# Altium footprint library Discrete.PCBLIB: 128 footprints (part 2 of 8)
Each footprint in its own frame and in the unit in brackets; x right, y up, seen from the top. Pads: shape width x height; smd on the part's side, far side on the other; paste and mask are expansions set on the pad; w line width, h text height; cw(c..) or ccw(c..) is an arc to the next point about the centre after c.
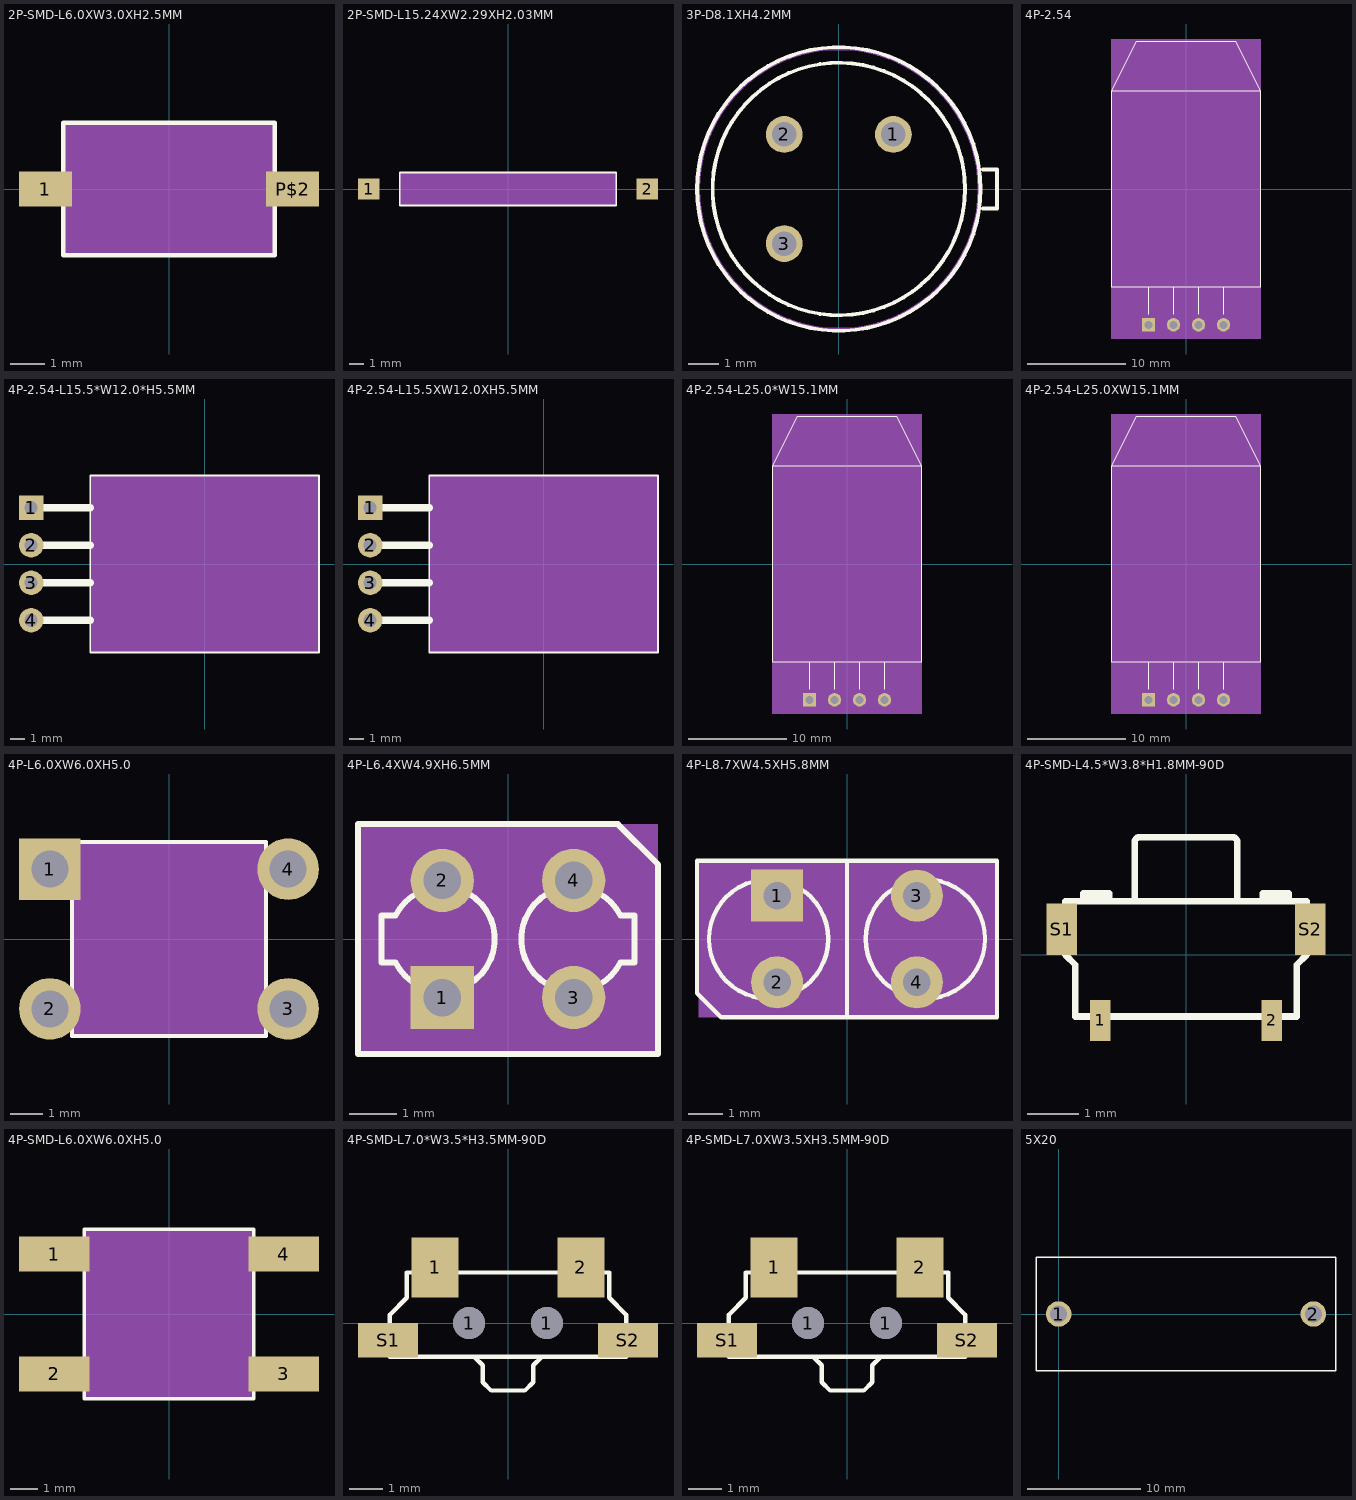
[diagram p1: the footprints below, top view; thin cyan lines are the x and y axes]

## 2P-SMD-L6.0XW3.0XH2.5MM [mil]
pads (2):
  rect 60x40 smd: 1(-140,0) P$2(140,0)
Top Overlay:
  lines w5: -120,-75 120,-75 120,75 -120,75 -120,-75
Mechanical 27:
  rectangle: -120,-75 120,75

## 2P-SMD-L15.24XW2.29XH2.03MM [mil]
pads (2):
  rect 59.06x59.06 smd: 1(-385.83,0) 2(385.83,0)
Top Overlay:
  lines w5: -300,-45.28 300,-45.28 300,45.28 -300,45.28 -300,-45.28
Mechanical 27:
  rectangle: -300,-45 300,45

## 3P-D8.1XH4.2MM [mil]
pads (3):
  round 47.25 hole 31.5: 1(70,70) 2(-70,70) 3(-70,-70)
Top Overlay:
  circle w5: c0,0 r182
  circle w5: c0,0 r162
  lines w5: 185,-25 203,-25 203,25 185,25
Mechanical 27:
  circle w5: c0,0 r180.62

## 4P-2.54 [mm]
pads (4):
  rect 1.35x1.35 hole 0.8: P$1(-3.81,-13.8)
  round 1.35 hole 0.8: P$2(-1.27,-13.8) P$3(1.27,-13.8) P$4(3.81,-13.8)
Top Overlay:
  lines w0.127: -3.81,-12.7 -3.81,-10 ; -1.27,-12.7 -1.27,-10 ; 1.27,-12.7 1.27,-10 ; 3.81,-12.7 3.81,-10 ; -7.55,10 7.55,10 ; -7.55,10 -7.55,-10 -3.81,-10 ; -7.55,10 -5,15 5,15 7.55,10 ; -3.81,-10 -1.27,-10 ; -1.27,-10 1.27,-10 ; 1.27,-10 3.81,-10 ; 3.81,-10 7.55,-10 7.55,10
Mechanical 27:
  rectangle: -7.62,-15.24 7.62,15.24

## 4P-2.54-L15.5*W12.0*H5.5MM [mil]
pads (4):
  rect 65x65 hole 35: 1(-462.6,150)
  round 65 hole 35: 2(-462.6,50) 3(-462.6,-50) 4(-462.6,-150)
Top Overlay:
  lines w5: -305.12,-236.22 305.12,-236.22 305.12,236.22 -305.12,236.22 -305.12,-236.22
  lines w20: -465,-50 -305,-50 ; -460,-150 -305,-150 ; -460,50 -305,50 ; -460,150 -305,150
Mechanical 27:
  rectangle: -305,-235 305,235

## 4P-2.54-L15.5XW12.0XH5.5MM [mil]
pads (4):
  rect 65x65 hole 35: 1(-462.6,150)
  round 65 hole 35: 2(-462.6,50) 3(-462.6,-50) 4(-462.6,-150)
Top Overlay:
  lines w5: -305.12,-236.22 305.12,-236.22 305.12,236.22 -305.12,236.22 -305.12,-236.22
  lines w20: -465,-50 -305,-50 ; -460,-150 -305,-150 ; -460,50 -305,50 ; -460,150 -305,150
Mechanical 27:
  rectangle: -305,-235 305,235

## 4P-2.54-L25.0*W15.1MM [mm]
pads (4):
  rect 1.35x1.35 hole 0.8: P$1(-3.81,-13.8)
  round 1.35 hole 0.8: P$2(-1.27,-13.8) P$3(1.27,-13.8) P$4(3.81,-13.8)
Top Overlay:
  lines w0.127: -3.81,-12.7 -3.81,-10 ; -1.27,-12.7 -1.27,-10 ; 1.27,-12.7 1.27,-10 ; 3.81,-12.7 3.81,-10 ; -7.55,10 7.55,10 ; -7.55,10 -7.55,-10 -3.81,-10 ; -7.55,10 -5,15 5,15 7.55,10 ; -3.81,-10 -1.27,-10 ; -1.27,-10 1.27,-10 ; 1.27,-10 3.81,-10 ; 3.81,-10 7.55,-10 7.55,10
Mechanical 27:
  rectangle: -7.62,-15.24 7.62,15.24

## 4P-2.54-L25.0XW15.1MM [mm]
pads (4):
  rect 1.35x1.35 hole 0.8: P$1(-3.81,-13.8)
  round 1.35 hole 0.8: P$2(-1.27,-13.8) P$3(1.27,-13.8) P$4(3.81,-13.8)
Top Overlay:
  lines w0.127: -3.81,-12.7 -3.81,-10 ; -1.27,-12.7 -1.27,-10 ; 1.27,-12.7 1.27,-10 ; 3.81,-12.7 3.81,-10 ; -7.55,10 7.55,10 ; -7.55,10 -7.55,-10 -3.81,-10 ; -7.55,10 -5,15 5,15 7.55,10 ; -3.81,-10 -1.27,-10 ; -1.27,-10 1.27,-10 ; 1.27,-10 3.81,-10 ; 3.81,-10 7.55,-10 7.55,10
Mechanical 27:
  rectangle: -7.62,-15.24 7.62,15.24

## 4P-L6.0XW6.0XH5.0 [mil]
pads (4):
  rect 75x75 hole 45: 1(-145,85)
  round 75 hole 45: 2(-145,-85) 3(145,-85) 4(145,85)
Top Overlay:
  lines w5: -118.11,-118.11 118.11,-118.11 118.11,118.11 -118.11,118.11 -118.11,-118.11
Mechanical 27:
  rectangle: -118.11,-118.11 118.11,118.11

## 4P-L6.4XW4.9XH6.5MM [mm]
pads (4):
  rect 1.35x1.35 hole 0.8: 1(-1.4,-1.25)
  round 1.35 hole 0.8: 2(-1.4,1.25) 3(1.4,-1.25) 4(1.4,1.25)
Top Overlay:
  lines w0.127: -3.2,-2.45 3.2,-2.45 3.2,1.594 2.344,2.45 -3.2,2.45 -3.2,-2.45 ; -2.7,-0.5 -2.7,0.5 -2.4,0.5 cw(c-1.4,0) -2.4,-0.5 -2.7,-0.5 ; 2.4,-0.5 cw(c1.4,0) 2.4,0.5 2.7,0.5 2.7,-0.5 2.4,-0.5
Mechanical 27:
  rectangle: -3.2,-2.45 3.2,2.45

## 4P-L8.7XW4.5XH5.8MM [mil]
pads (4):
  rect 60x60 hole 32: 1(-80.71,50)
  round 60 hole 32: 2(-80.71,-50) 3(80.71,50) 4(80.71,-50)
Top Overlay:
  circle w5: c-90.55,0 r68.9
  circle w5: c90.55,0 r68.9
  lines w5: 0,-90.55 -145.28,-90.55 -173.23,-62.6 -173.23,90.55 0,90.55 ; 0,-90.55 173.23,-90.55 173.23,90.55 0,90.55 ; 0,-90.55 0,90.55
Mechanical 27:
  rectangle: -171.26,-90.55 171.26,90.55

## 4P-SMD-L4.5*W3.8*H1.8MM-90D [mil]
pads (4):
  rect 15.75x31.5 smd: 1(-65.94,-50.28) 2(65.94,-50.28)
  rect 23.62x39.37 smd: S1(-95.47,19.69) S2(95.47,19.69)
Top Overlay:
  lines w5: -76.77,45.28 -61.02,45.28 ; 61.02,45.28 76.77,45.28 ; -78.74,41.34 -59.06,41.34 ; -78.74,41.34 -92.52,41.34 -92.52,0 -85,-7.52 -85,-47.24 85,-47.24 85,-7.52 92.52,0 92.52,41.34 78.74,41.34 ; -78.74,41.34 -78.74,47.24 -59.06,47.24 -59.06,41.34 ; -59.06,41.34 -39.37,41.34 ; -39.37,41.34 39.37,41.34 ; -39.37,41.34 -39.37,86.61 cw(c-35.43,86.61) -35.43,90.55 35.43,90.55 cw(c35.43,86.61) 39.37,86.61 39.37,41.34 ; 39.37,41.34 59.06,41.34 ; 59.06,41.34 78.74,41.34 ; 59.06,41.34 59.06,47.24 78.74,47.24 78.74,41.34

## 4P-SMD-L6.0XW6.0XH5.0 [mil]
pads (4):
  rect 100x50 smd: 1(-162.56,85) 2(-162.56,-85) 3(162.56,-85) 4(162.56,85)
Top Overlay:
  lines w5: -120,-120 120,-120 120,120 -120,120 -120,-120
Mechanical 27:
  rectangle: -120,-120 120,120

## 4P-SMD-L7.0*W3.5*H3.5MM-90D [mil]
pads (6):
  rect 55x70 smd: 1(-85,65) 2(85,65)
  round 37.4 hole 37.4: 1(-45.28,0) 1(45.28,0)
  rect 70x40 smd: S1(-140,-20) S2(140,-20)
Top Overlay:
  lines w5: -39.37,-39.37 39.37,-39.37 ; -39.37,-39.37 -137.8,-39.37 -137.8,9.84 -118.11,29.53 -118.11,59.06 118.11,59.06 118.11,29.53 137.8,9.84 137.8,-39.37 39.37,-39.37 ; -39.37,-39.37 -29.53,-49.21 -29.53,-68.9 -19.69,-78.74 19.69,-78.74 29.53,-68.9 29.53,-49.21 39.37,-39.37

## 4P-SMD-L7.0XW3.5XH3.5MM-90D [mil]
pads (6):
  rect 55x70 smd: 1(-85,65) 2(85,65)
  round 37.4 hole 37.4: 1(-45.28,0) 1(45.28,0)
  rect 70x40 smd: S1(-140,-20) S2(140,-20)
Top Overlay:
  lines w5: -39.37,-39.37 39.37,-39.37 ; -39.37,-39.37 -137.8,-39.37 -137.8,9.84 -118.11,29.53 -118.11,59.06 118.11,59.06 118.11,29.53 137.8,9.84 137.8,-39.37 39.37,-39.37 ; -39.37,-39.37 -29.53,-49.21 -29.53,-68.9 -19.69,-78.74 19.69,-78.74 29.53,-68.9 29.53,-49.21 39.37,-39.37

## 5X20 [mil]
pads (2):
  round 88.59 hole 59.06: 1(0,0) 2(885.83,0)
Top Overlay:
  lines w5: -78.74,-196.85 964.57,-196.85 964.57,196.85 -78.74,196.85 -78.74,-196.85